# EAGLE library part 171012401 (library Power modules)
DC DC CONVERTER 5-24V Manufacturer's datasheet <https://katalog.we-online.de/pm/datasheet/171012401.pdf>
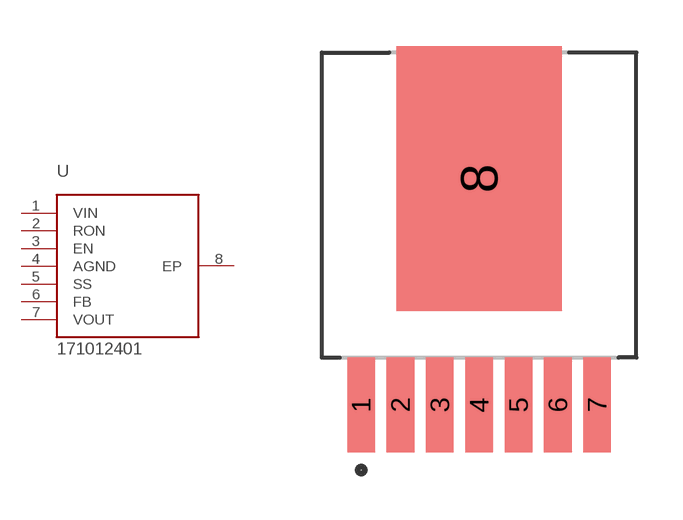
[diagram p0: symbol with the pads of 171012401; footprint 171012401]

Designator prefix U

## 171012401 (CREATED_BY: PCBLayout.com; DIGIKEY_PART_NUMBER: 732-6212-1-ND; MANUFACTURER: Wurth Electronics Inc.; MPN: 171012401; PACKAGE: 7-SMD Module)  [171012401]
1  VIN  pwr
2  RON  in
3  EN  in
4  AGND  pwr
5  SS  in
6  FB  in
7  VOUT  pwr
8  EP  pwr

## Footprint 171012401 (pad centres in mm)
smd 0.89 x 3.06: 1 -3.81,-3.652; 2 -2.54,-3.652; 3 -1.27,-3.652; 4 0,-3.652; 5 1.27,-3.652; 6 2.54,-3.652; 7 3.81,-3.652
smd 5.35 x 8.54: 8 0,3.652